# Altium footprint library EUTECH.PcbLib: 1 footprints
Each footprint in its own frame and in the unit in brackets; x right, y up, seen from the top. Pads: shape width x height; smd on the part's side, far side on the other; paste and mask are expansions set on the pad; w line width, h text height; cw(c..) or ccw(c..) is an arc to the next point about the centre after c.
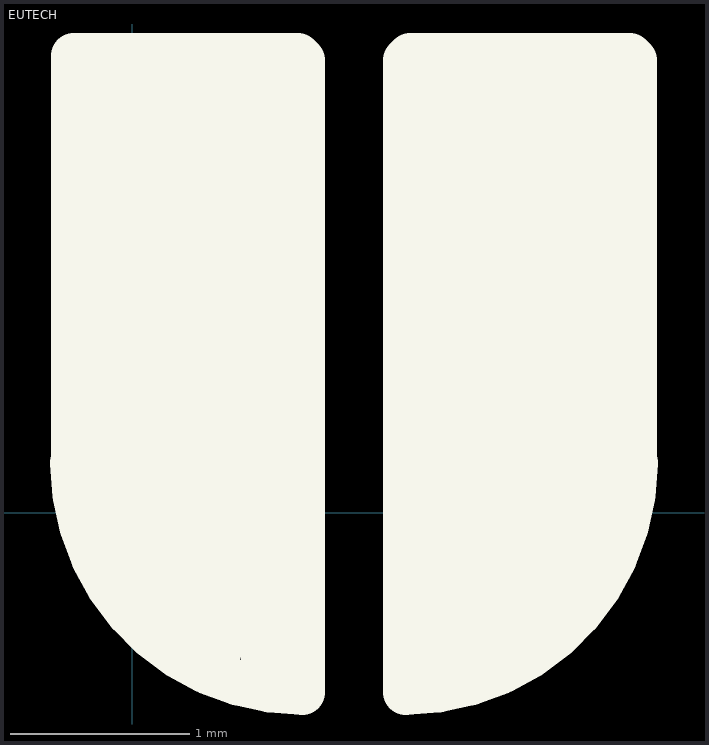
[diagram p0: the footprint, top view; thin cyan lines are the x and y axes]

## EUTECH [mm]
Top Overlay:
  lines w0.254: -0.331,0.281 ccw(c0.95,0.281) 0.95,-1 ; -0.325,0.275 -0.325,2.55 0.925,2.55 0.95,2.525 0.95,-1 ; -0.125,2.4 -0.125,-0.4 0,-0.525 0,2.475 0.025,2.5 0.2,2.5 0.25,2.45 0.25,-0.575 0.475,-0.8 0.475,2.45 0.675,2.45 0.725,2.4 0.725,-0.775 0.95,-1 ; 1.775,2.475 1.775,-0.875 1.75,-0.9 1.875,-0.9 2,-0.775 2,2.475 ; 2.806,0.281 cw(c1.525,0.281) 1.525,-1 1.525,2.525 1.55,2.55 2.775,2.55 2.8,2.525 2.8,0.25 2.625,-0.175 2.625,2.45 2.6,2.475 2.4,2.475 2.475,2.4 2.475,-0.45 2.225,-0.7 2.225,2.475 2,2.475 ; 2,2.475 2,2.475